# Altium schematic symbol library AD8212S.Schlib: 1 symbol
Pins are listed as number, name and electrical type; pins without a type are passive.

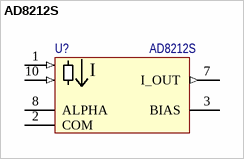
[diagram p0: symbol AD8212S]

## AD8212S
designator U?
Назначение: Токовый датчик; Наименование: AD8212S
footprint 10pin FlatPack + MSOP 8
pins: 1 V+ (in), 2 COM (oc), 3 BIAS (oc), 7 I_OUT (out), 8 ALPHA (oc), 10 V_SENSE (in)
text: I